# Altium footprint library SCA61T.PcbLib: 1 footprints
Each footprint in its own frame and in the unit in brackets; x right, y up, seen from the top. Pads: shape width x height; smd on the part's side, far side on the other; paste and mask are expansions set on the pad; w line width, h text height; cw(c..) or ccw(c..) is an arc to the next point about the centre after c.
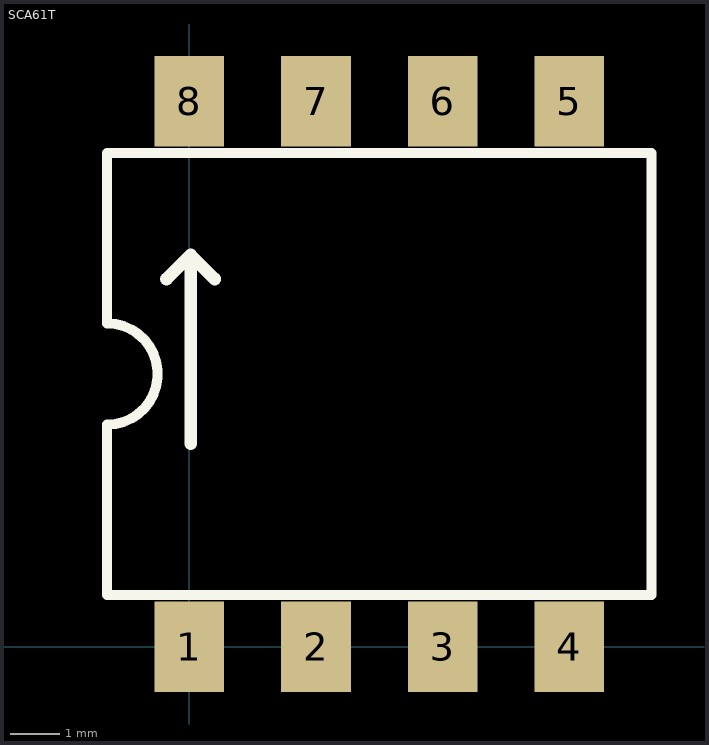
[diagram p0: the footprint, top view; thin cyan lines are the x and y axes]

## SCA61T [mil]
height 200
pads (8):
  rect 55x71.5 smd: 1(0,0) 2(100,0) 3(200,0) 4(300,0) 5(300,431) 6(200,431) 7(100,431) 8(0,431)
TopOverlay:
  lines w8: -65,41 -65,175.5 ccw(c-65,215.5) -65,255.5 -65,390 365,390 365,41 -65,41
  lines w10: -18,290.5 1,309.5 ; 1,160.5 1,309.5 ; 20,290.5 1,309.5
  text "." at -40,90.5 h75